# Altium footprint library SmartCar.PcbLib: 12 footprints
Each footprint in its own frame and in the unit in brackets; x right, y up, seen from the top. Pads: shape width x height; smd on the part's side, far side on the other; paste and mask are expansions set on the pad; w line width, h text height; cw(c..) or ccw(c..) is an arc to the next point about the centre after c.
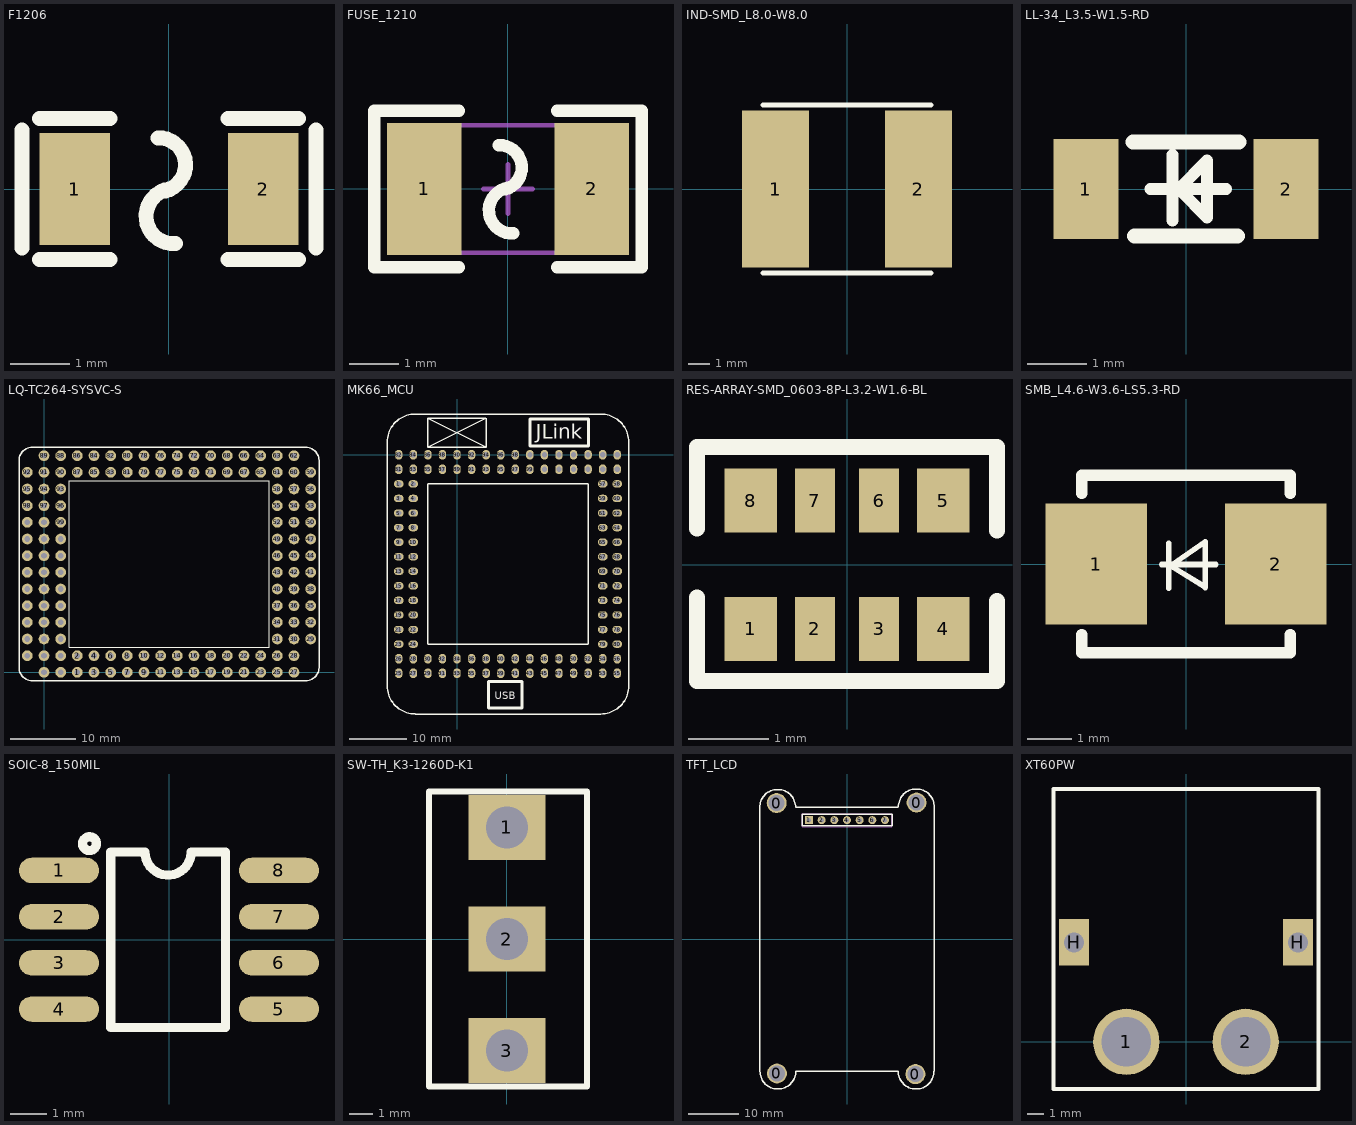
[diagram p0: the footprints below, top view; thin cyan lines are the x and y axes]

## F1206 [mm]
pads (2):
  rect 1.2x1.9 smd: 1(-1.6,0) 2(1.6,0)
Top Overlay:
  lines w0.254: -2.5,-1 -2.5,1 ; -2.2,-1.2 -1,-1.2 ; -2.2,1.2 -1,1.2 ; -0.19,0.87 cw(c-0.178,0.411) -0.137,-0.046 ; 0,0 ccw(c0.079,-0.462) 0.11,-0.93 ; 1,-1.2 2.2,-1.2 ; 1,1.2 2.2,1.2 ; 2.5,-1 2.5,1

## FUSE_1210 [mm]
pads (2):
  rect 1.52x2.7 smd: 1(-1.71,0) 2(1.71,0)
Top Overlay:
  lines w0.254: -1,-1.6 -2.725,-1.6 -2.725,1.6 -1,1.6 ; -0.19,0.895 cw(c-0.178,0.436) -0.137,-0.021 ; 0,0.025 ccw(c0.079,-0.437) 0.11,-0.905 ; 1,-1.6 2.725,-1.6 2.725,1.6 1,1.6
Mechanical 15:
  lines w0.1: -0.5,0 0.5,0 ; 0,-0.5 0,0.5 ; -1.6,-1.3 -1.6,1.3 1.6,1.3 1.6,-1.3 -1.6,-1.3
3D body "Fuse1210.STEP": height 0.67, standoff 0, extent -1.607,-1.275 1.608,1.3

## IND-SMD_L8.0-W8.0 [mm]
pads (2):
  rect 3.2x7.5 smd: 1(-3.4,0) 2(3.4,0)
Top Overlay:
  lines w0.254: -4,-4 4,-4 ; -4,4 4,4

## LL-34_L3.5-W1.5-RD [mm]
pads (2):
  rect 1.1x1.7 smd: 1(-1.7,0) 2(1.7,0)
Top Overlay:
  lines w0.2: -0.61,0 0.686,0 ; -0.229,-0.533 -0.229,0.584 ; -0.127,0 0.356,0.483 0.356,-0.483 -0.102,-0.025
  lines w0.254: -0.9,0.8 0.9,0.8 ; -0.878,-0.8 0.878,-0.8

## LQ-TC264-SYSVC-S [mm] "单片机核心板封装库"
pads (127):
  round 1.65 hole 0.88: 1(5.08,0) 2(5.08,2.54) 3(7.62,0) 4(7.62,2.54) 5(10.16,0) 6(10.16,2.54) 7(12.7,0) 8(12.7,2.54) 9(15.24,0) 10(15.24,2.54) 11(17.78,0) 12(17.78,2.54) 13(20.32,0) 14(20.32,2.54) 15(22.86,0) 16(22.86,2.54) 17(25.4,0) 18(25.4,2.54) 19(27.94,0) 20(27.94,2.54) 21(30.48,0) 22(30.48,2.54) 23(33.02,0) 24(33.02,2.54) 25(35.56,0) 26(35.56,2.54) 27(38.1,0) 28(38.1,2.54) 30(38.1,5.08) 31(35.56,5.08) 33(38.1,7.62) 34(35.56,7.62) 36(38.1,10.16) 37(35.56,10.16) 39(38.1,12.7) 40(35.56,12.7) 42(38.1,15.24) 43(35.56,15.24) 45(38.1,17.78) 46(35.56,17.78) 48(38.1,20.32) 49(35.56,20.32) 51(38.1,22.86) 52(35.56,22.86) 54(38.1,25.4) 55(35.56,25.4) 57(38.1,27.94) 58(35.56,27.94) 60(38.1,30.48) 61(35.56,30.48) 62(38.1,33.02) 63(35.56,33.02) 64(33.02,33.02) 65(33.02,30.48) 66(30.48,33.02) 67(30.48,30.48) 68(27.94,33.02) 69(27.94,30.48) 70(25.4,33.02) 71(25.4,30.48) 72(22.86,33.02) 73(22.86,30.48) 74(20.32,33.02) 75(20.32,30.48) 76(17.78,33.02) 77(17.78,30.48) 78(15.24,33.02) 79(15.24,30.48) 80(12.7,33.02) 81(12.7,30.48) 82(10.16,33.02) 83(10.16,30.48) 84(7.62,33.02) 85(7.62,30.48) 86(5.08,33.02) 87(5.08,30.48) 88(2.54,33.02) 89(0,33.02) 90(2.54,30.48) 91(0,30.48) 93(2.54,27.94) 94(0,27.94) 96(2.54,25.4) 97(0,25.4) 99(2.54,22.86) 100(0,22.86) 102(2.54,20.32) 103(0,20.32) 105(2.54,17.78) 106(0,17.78) 108(2.54,15.24) 109(0,15.24) 111(2.54,12.7) 112(0,12.7) 114(2.54,10.16) 115(0,10.16) 117(2.54,7.62) 118(0,7.62) 120(2.54,5.08) 121(0,5.08) 123(2.54,2.54) 124(0,2.54) 126(2.54,0) 127(0,0)
  round 1.65 hole 0.88 mask+0.102: 29(40.64,5.08) 32(40.64,7.62) 35(40.64,10.16) 38(40.64,12.7) 41(40.64,15.24) 44(40.64,17.78) 47(40.64,20.32) 50(40.64,22.86) 53(40.64,25.4) 56(40.64,27.94) 59(40.64,30.48) 92(-2.54,30.48) 95(-2.54,27.94) 98(-2.54,25.4) 101(-2.54,22.86) 104(-2.54,20.32) 107(-2.54,17.78) 110(-2.54,15.24) 113(-2.54,12.7) 116(-2.54,10.16) 119(-2.54,7.62) 122(-2.54,5.08) 125(-2.54,2.54)
Top Overlay:
  lines w0.15: 3.81,3.8 34.29,3.8 34.29,29.185 3.9,29.185 ; 3.81,3.861 3.81,29.185
  lines w0.2: -3.81,0.596 -3.81,32.29 cw(c-1.81,32.29) -1.81,34.29 39.91,34.29 cw(c39.91,32.29) 41.91,32.29 41.91,0.635 ; -3.81,0.73 ccw(c-1.81,0.73) -1.81,-1.27 40.132,-1.27 ; 39.91,-1.27 ccw(c39.91,0.73) 41.91,0.73

## MK66_MCU [mm]
pads (112):
  oval 1.7x1.3 hole 0.9: 1(-10.16,-5.08) 2(-7.62,-5.08) 3(-10.16,-7.62) 4(-7.62,-7.62) 5(-10.16,-10.16) 6(-7.62,-10.16) 7(-10.16,-12.7) 8(-7.62,-12.7) 9(-10.16,-15.24) 10(-7.62,-15.24) 11(-10.16,-17.78) 12(-7.62,-17.78) 13(-10.16,-20.32) 14(-7.62,-20.32) 15(-10.16,-22.86) 16(-7.62,-22.86) 17(-10.16,-25.4) 18(-7.62,-25.4) 19(-10.16,-27.94) 20(-7.62,-27.94) 21(-10.16,-30.48) 22(-7.62,-30.48) 23(-10.16,-33.02) 24(-7.62,-33.02) 57(25.4,-5.08) 58(27.94,-5.08) 59(25.4,-7.62) 60(27.94,-7.62) 61(25.4,-10.16) 62(27.94,-10.16) 63(25.4,-12.7) 64(27.94,-12.7) 65(25.4,-15.24) 66(27.94,-15.24) 67(25.4,-17.78) 68(27.94,-17.78) 69(25.4,-20.32) 70(27.94,-20.32) 71(25.4,-22.86) 72(27.94,-22.86) 73(25.4,-25.4) 74(27.94,-25.4) 75(25.4,-27.94) 76(27.94,-27.94) 77(25.4,-30.48) 78(27.94,-30.48) 79(25.4,-33.02) 80(27.94,-33.02)
  oval 1.3x1.7 hole 0.9: 25(-10.16,-38.1) 26(-10.16,-35.56) 27(-7.62,-38.1) 28(-7.62,-35.56) 29(-5.08,-38.1) 30(-5.08,-35.56) 31(-2.54,-38.1) 32(-2.54,-35.56) 33(0,-38.1) 34(0,-35.56) 35(2.54,-38.1) 36(2.54,-35.56) 37(5.08,-38.1) 38(5.08,-35.56) 39(7.62,-38.1) 40(7.62,-35.56) 41(10.16,-38.1) 42(10.16,-35.56) 43(12.7,-38.1) 44(12.7,-35.56) 45(15.24,-38.1) 46(15.24,-35.56) 47(17.78,-38.1) 48(17.78,-35.56) 49(20.32,-38.1) 50(20.32,-35.56) 51(22.86,-38.1) 52(22.86,-35.56) 53(25.4,-38.1) 54(25.4,-35.56) 55(27.94,-38.1) 56(27.94,-35.56) 81(-10.16,-2.54) 82(-10.16,0) 83(-7.62,-2.54) 84(-7.62,0) 85(-5.08,-2.54) 86(-5.08,0) 87(-2.54,-2.54) 88(-2.54,0) 89(0,-2.54) 90(0,0) 91(2.54,-2.54) 92(2.54,0) 93(5.08,-2.54) 94(5.08,0) 95(7.62,-2.54) 96(7.62,0) 97(10.16,-2.54) 98(10.16,0) 99(12.7,-2.54) 100(12.7,0) 101(15.24,-2.54) 102(15.24,0) 103(17.78,-2.54) 104(17.78,0) 105(20.32,-2.54) 106(20.32,0) 107(22.86,-2.54) 108(22.86,0) 109(25.4,-2.54) 110(25.4,0) 111(27.94,-2.54) 112(27.94,0)
Top Overlay:
  lines w0.254: -12.16,-20.066 -12.16,-40.332 ccw(c-7.29,-40.332) -7.29,-45.202 ; -12.156,-23.734 -12.156,2.235 cw(c-7.286,2.235) -7.286,7.105 25.066,7.105 ; -7.29,-45.205 25.066,-45.205 ccw(c25.066,-40.335) 29.936,-40.335 ; -5.08,-33.02 -5.08,-28.27 -5.08,-10.795 -5.08,-5.105 ; -5.08,-5.08 -0.33,-5.08 17.221,-5.08 ; -5.055,-33.02 0.635,-33.02 ; 0.406,-33.02 18.11,-33.02 22.86,-33.02 ; 5.029,1.27 -5.08,1.27 ; 5.08,6.35 5.08,1.27 -5.08,6.35 ; 17.145,-5.08 22.835,-5.08 ; 22.86,-32.995 22.86,-27.305 ; 22.86,-27.483 22.86,-9.83 22.86,-5.08 ; 25.07,7.102 cw(c25.07,2.232) 29.94,2.232 29.94,-12.573 29.94,-40.335 ; -5.08,1.27 -5.08,6.35 ; -5.08,1.27 5.029,6.35 -5.08,6.35
  lines w0.5: 5.485,-44.186 5.485,-39.514 11.349,-39.514 11.349,-44.186 5.485,-44.186 ; 12.746,1.534 22.906,1.534 22.906,6.206 12.746,6.206 12.746,1.534
  text "JLink" at 13.762,2.768 h2.54
  text "USB" at 6.584,-42.668 h1.27

## RES-ARRAY-SMD_0603-8P-L3.2-W1.6-BL [mm]
pads (8):
  rect 0.65x0.8 smd: 1(-1.2,-0.8) 4(1.2,-0.8) 5(1.2,0.8) 8(-1.2,0.8)
  rect 0.5x0.8 smd: 2(-0.4,-0.8) 3(0.4,-0.8) 6(0.4,0.8) 7(-0.4,0.8)
Top Overlay:
  lines w0.2: -1.87,-0.41 -1.87,-1.45 1.87,-1.45 1.87,-0.45 ; -1.87,0.45 -1.87,1.47 1.87,1.47 1.87,0.43

## SMB_L4.6-W3.6-LS5.3-RD [mm]
pads (2):
  rect 2.29x2.72 smd: 1(-2.025,0) 2(2.025,0)
Top Overlay:
  lines w0.127: -0.548,-0.01 0.671,-0.01 ; -0.389,-0.546 -0.389,0.47 ; 0.433,-0.53 0.433,0.486 ; 0.433,-0.52 -0.35,-0.04 0.433,0.5
  lines w0.254: -2.35,-1.591 -2.35,-2 2.35,-2 2.35,-1.591 ; -2.35,1.591 -2.35,2 2.35,2 2.35,1.591

## SOIC-8_150MIL [mm]
pads (8):
  oval 2.2x0.7 smd: 1(-3.023,1.905) 2(-3.023,0.635) 3(-3.023,-0.635) 4(-3.023,-1.905) 5(3.023,-1.905) 6(3.023,-0.635) 7(3.023,0.635) 8(3.023,1.905)
Top Overlay:
  circle w0.254: c-2.184,2.642 r0.191
  lines w0.254: -1.6,-2.413 -1.6,2.413 -0.66,2.413 ccw(c-0.025,2.413) 0.61,2.413 1.549,2.413 1.549,-2.413 -1.6,-2.413
3D body "SOIC127P600X180-8N.STEP": height 1.95, standoff 0, extent -3.03,-2.565 3.026,2.565

## SW-TH_K3-1260D-K1 [mm]
pads (3):
  rect 3.3x2.8 hole 1.8 square: 1(0,4.8) 2(0,0) 3(0,-4.8)
Top Overlay:
  lines w0.254: 3.35,-6.35 -3.35,-6.35 -3.35,6.35 3.438,6.35 3.438,-6.35

## TFT_LCD [mm]
pads (11):
  round 4 hole 3.2: 0(-14.097,27.33) 0(-14.046,-26.899) 0(13.716,-27.026) 0(13.945,27.432)
  rect 1.6x1.6 hole 0.9: 1(-7.626,23.901)
  round 1.6 hole 0.9: 2(-5.086,23.901) 3(-2.546,23.901) 4(-0.006,23.901) 5(2.534,23.901) 6(5.074,23.901) 7(7.614,23.901)
Top Overlay:
  lines w0.254: -17.5,-26.409 -17.5,26.441 cw(c-13.9,26.441) -10.3,26.441 ; -17.456,-26.409 ccw(c-13.856,-26.409) -10.256,-26.409 10.244,-26.409 ccw(c13.844,-26.409) 17.444,-26.409 ; -10.256,26.441 10.244,26.441 ; 10.3,26.543 cw(c13.9,26.543) 17.5,26.543 17.5,-26.409 ; -9.006,22.758 -9.006,25.044 9.074,25.044 9.074,22.758 -9.006,22.758
Mechanical 15:
  lines w0.1: -9.006,22.601 -9.006,25.201 8.994,25.201 8.994,22.601 -9.006,22.601
3D body "Header-F-2.54X7.stp": height 8.6, standoff -3.1, extent -9.021,22.641 9.009,25.141

## XT60PW [mm]
pads (4):
  round 4 hole 3: 1(-3.6,0) 2(3.6,0)
  rect 1.8x2.8 hole 1.2 square: H(-6.75,6) H(6.75,6)
Top Overlay:
  lines w0.254: -8.001,-2.845 8.001,-2.845 8.001,15.255 -8.001,15.255 -8.001,-2.845